# Altium footprint library Rover_Motor_Driver.PcbLib: 9 footprints
Each footprint in its own frame and in the unit in brackets; x right, y up, seen from the top. Pads: shape width x height; smd on the part's side, far side on the other; paste and mask are expansions set on the pad; w line width, h text height; cw(c..) or ccw(c..) is an arc to the next point about the centre after c.
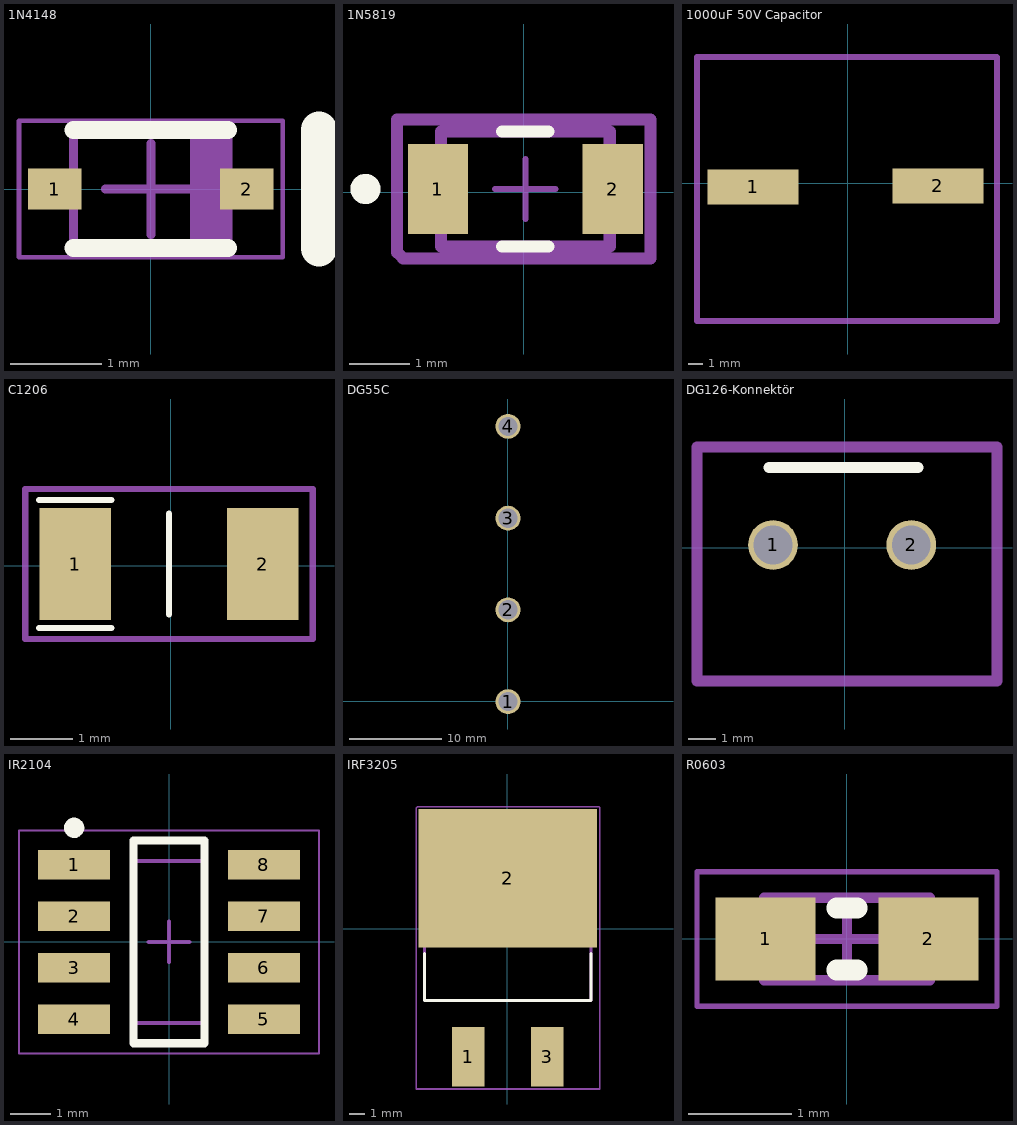
[diagram p0: the footprints below, top view; thin cyan lines are the x and y axes]

## 1N4148 [mm]
height 1.15
pads (2):
  rect 0.59x0.45 smd: 1(-1.055,0) 2(1.055,0)
Top Overlay:
  lines w0.2: -0.85,-0.65 0.85,-0.65 ; -0.85,0.65 0.85,0.65
  lines w0.4: 1.85,-0.65 1.85,0.65
Mechanical 13:
  region: 0.85,0.65 0.432,0.65 0.432,-0.65 0.85,-0.65
  lines w0.1: -0.85,-0.65 0.85,-0.65 0.85,0.65 -0.85,0.65 -0.85,-0.65
Mechanical 15:
  lines w0.05: -1.45,-0.75 1.45,-0.75 1.45,0.75 -1.45,0.75 -1.45,-0.75
  lines w0.1: -0.5,0 0.5,0 ; 0,-0.5 0,0.5
3D body: height 1.2, standoff 0, extent -0.85,-0.65 0.85,0.65

## 1N5819 [mm] "Diode"
height 1.35
pads (2):
  rect 1x1.5 smd paste+0 mask+0: 1(-1.425,0.05) 2(1.475,0.05)
Top Overlay:
  circle w0.25: c-2.625,0.05 r0.125
  lines w0.2: -0.36,-0.9 0.41,-0.9 ; -0.36,1 0.41,1
Top 3D Body:
  lines w0.2: -1.375,-0.9 -1.375,1 1.425,1 1.425,-0.9 -1.375,-0.9
Mechanical 3:
  lines w0.2: -2.1,-1 -2.1,1.2 2.1,1.2 2.1,-1.1 -2,-1.1 -2.1,-1
Top Component Center:
  lines w0.1: -0.475,0.05 0.525,0.05 ; 0.025,-0.45 0.025,0.55
3D body "Diode_Diodes_Inc_1N5819HW1-7-F_eec.STEP": height 0.25, standoff 0, extent -2.025,-1 2.075,1.1

## 1000uF 50V Capacitor [mm]
pads (2):
  rect 6.5x2.5 smd mask+0.05: 1(-6.775,-0.25) 2(6.425,-0.175)
Mechanical 3:
  lines w0.4: -10.775,-9.825 -10.775,9.025 10.625,9.025 10.65,9 10.65,0.525 10.65,-9.825 -10.775,-9.825
3D body "â-16 SIZE CODE J16.stp": height 16.5, standoff 0, extent -9.225,-8.8 9.175,8.2

## C1206 [mm]
pads (2):
  rect 1.15x1.8 smd mask+0.05: 1(-1.525,0.025) 2(1.475,0.025)
Top Overlay:
  lines w0.1: -2.1,-1 -0.95,-1 -1.45,-1 -1.925,-1 ; -1.625,1.05 -1.9,1.05 -2.1,1.05 -0.95,1.05 ; -0.025,-0.78 -0.025,0.83
Mechanical 3:
  lines w0.1: -2.325,-1.175 2.275,-1.175 2.275,1.225 -2.325,1.225 -2.325,-1.175
3D body "1206CAP.step": height 1, standoff 0, extent -1.625,-0.775 1.575,0.825

## DG55C [mm] "PCB Güç Konnektör"
pads (4):
  round 2.7 hole 2.1: 1(0.025,-0.025) 2(0.025,9.975) 3(0.025,19.975) 4(0.025,29.975)
3D body "User Library-DG55C-B-04P.STEP": height 20.25, standoff -3.54, extent -7.825,-5.7 7.775,35.8

## DG126-Konnektör [mm]
pads (2):
  round 1.8 hole 1.4: 1(-2.6,0.1) 2(2.4,0.1)
Top Overlay:
  lines w0.4: -2.75,2.9 2.65,2.9
Mechanical 3:
  lines w0.4: -5.35,-4.825 -5.35,3.65 5.5,3.65 5.5,-4.825 -5.35,-4.825
3D body "User Library-DT126VP-02P.STEP": height 10.7, standoff -1.7, extent -5.1,-4.475 5.15,3.325

## IR2104 [mm] "H-bridge MOSFET Driver"
height 1.75
pads (8):
  rect 1.78x0.72 smd: 1(-2.34,1.905) 2(-2.34,0.635) 3(-2.34,-0.635) 4(-2.34,-1.905) 5(2.34,-1.905) 6(2.34,-0.635) 7(2.34,0.635) 8(2.34,1.905)
Top Overlay:
  circle w0.25: c-2.34,2.815 r0.125
  lines w0.2: -0.875,-2.5 -0.875,2.5 0.875,2.5 0.875,-2.5 -0.875,-2.5
Mechanical 13:
  lines w0.1: -0.875,-2 -0.875,2 0.875,2 0.875,-2 -0.875,-2
Mechanical 15:
  lines w0.05: -3.7,-2.75 -3.7,2.75 3.7,2.75 3.7,-2.75 -3.7,-2.75
  lines w0.1: -0.5,0 0.5,0 ; 0,-0.5 0,0.5
3D body "SOIC127P600X175-8N.step": height 1.75, standoff 0, extent -3,-2.5 3,2.5

## IRF3205 [mm] "MOSFET"
height 4.83
pads (3):
  rect 2.08x3.81 smd paste+0 mask+0: 1(-2.49,-8.189) 3(2.59,-8.189)
  rect 11.43x8.89 smd paste+0 mask+0: 2(0.05,3.241)
Top Overlay:
  lines w0.2: -5.285,-1.579 -5.285,-4.596 5.385,-4.596 5.385,-1.579
Top 3D Body:
  lines w0.2: -5.285,-4.596 -5.285,5.054 5.385,5.054 5.385,-4.596 -5.285,-4.596
Mechanical 3:
  lines w0.1: -5.8,-10.25 5.925,-10.25 5.925,7.775 5.875,7.825 -5.725,7.825 -5.8,7.75 -5.8,-10.25
Top Assembly:
  text ".Designator" at 0.05,-1.204 h1
Mechanical 13:
  lines w0.1: -5.8,-10.25 5.925,-10.25 5.925,7.775 5.875,7.825 -5.725,7.825 -5.8,7.75 -5.8,-10.25
Top Component Center:
  lines w0.1: -0.45,0.229 0.55,0.229 ; 0.05,-0.271 0.05,0.729
3D body "Trans_Infineon_Technologies_IRF3205STRLPBF_eec.STEP": height 0.25, standoff 0, extent -5.765,-10.194 5.865,7.786

## R0603 [mm] "Resistor 27R"
height 0.5
pads (2):
  rect 0.965x0.8 smd: 1(-0.787,0) 2(0.788,0)
Top Overlay:
  lines w0.2: -0.1,-0.3 0.1,-0.3 ; -0.1,0.3 0.1,0.3
Mechanical 13:
  lines w0.1: -0.8,-0.4 0.8,-0.4 0.8,0.4 -0.8,0.4 -0.8,-0.4
Mechanical 15:
  lines w0.05: -1.45,-0.65 1.45,-0.65 1.45,0.65 -1.45,0.65 -1.45,-0.65
  lines w0.1: -0.4,0 0.4,0 ; 0,-0.4 0,0.4
3D body "RESC1608X05N.step": height 0.5, standoff 0, extent -0.8,-0.4 0.8,0.4